# Altium footprint library PcbLib1.PcbLib: 21 footprints (part 2 of 2)
Each footprint in its own frame and in the unit in brackets; x right, y up, seen from the top. Pads: shape width x height; smd on the part's side, far side on the other; paste and mask are expansions set on the pad; w line width, h text height; cw(c..) or ccw(c..) is an arc to the next point about the centre after c.
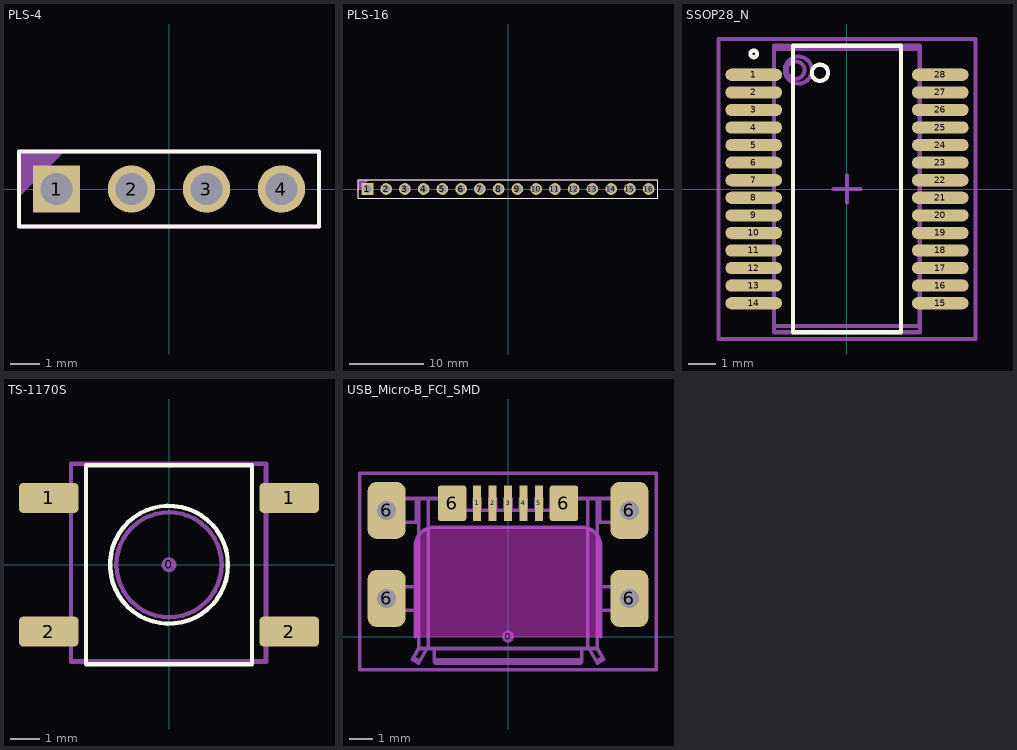
[diagram p1: the footprints below, top view; thin cyan lines are the x and y axes]

## PLS-4 [mm]
pads (4):
  rect 1.6x1.6 hole 1.1: 1(-3.81,0)
  round 1.6 hole 1.1: 2(-1.27,0) 3(1.27,0) 4(3.81,0)
Top Overlay:
  lines w0.15: -5.08,-1.27 -5.08,1.27 5.08,1.27 5.08,-1.27 -5.08,-1.27
Mechanical 29:
  region: -5.08,1.27 -3.556,1.27 -5.08,-0.254
  lines w0.15: -5.08,-1.27 5.08,-1.27 5.08,1.27 -5.08,1.27 -5.08,-1.27
  text ".Designator" at -3.5,-0.8 h1
3D body "PLS-1.STEP": height 8.5, standoff -3, extent -5.08,-1.27 -2.54,1.27
3D body "PLS-1.STEP": height 8.5, standoff -3, extent -2.54,-1.27 0,1.27
3D body "PLS-1.STEP": height 8.5, standoff -3, extent 0,-1.27 2.54,1.27
3D body "PLS-1.STEP": height 8.5, standoff -3, extent 2.54,-1.27 5.08,1.27

## PLS-16 [mm]
pads (16):
  rect 1.6x1.6 hole 1.1: 1(-19.05,0)
  round 1.6 hole 1.1: 2(-16.51,0) 3(-13.97,0) 4(-11.43,0) 5(-8.89,0) 6(-6.35,0) 7(-3.81,0) 8(-1.27,0) 9(1.27,0) 10(3.81,0) 11(6.35,0) 12(8.89,0) 13(11.43,0) 14(13.97,0) 15(16.51,0) 16(19.05,0)
Top Overlay:
  lines w0.15: -20.32,-1.27 20.32,-1.27 20.32,1.27 -20.32,1.27 -20.32,-1.27
Mechanical 29:
  region: -20.32,1.27 -18.796,1.27 -20.32,-0.254
  lines w0.15: -20.32,-1.27 -20.32,1.27 20.32,1.27 20.32,-1.27 -20.32,-1.27
  text ".Designator" at -3.5,-0.3 h1
3D body "PLS-1.STEP": height 8.5, standoff -3, extent 17.78,-1.27 20.32,1.27
3D body "PLS-1.STEP": height 8.5, standoff -3, extent 15.24,-1.27 17.78,1.27
3D body "PLS-1.STEP": height 8.5, standoff -3, extent 12.7,-1.27 15.24,1.27
3D body "PLS-1.STEP": height 8.5, standoff -3, extent 10.16,-1.27 12.7,1.27
3D body "PLS-1.STEP": height 8.5, standoff -3, extent 7.62,-1.27 10.16,1.27
3D body "PLS-1.STEP": height 8.5, standoff -3, extent 5.08,-1.27 7.62,1.27
3D body "PLS-1.STEP": height 8.5, standoff -3, extent 2.54,-1.27 5.08,1.27
3D body "PLS-1.STEP": height 8.5, standoff -3, extent 0,-1.27 2.54,1.27
3D body "PLS-1.STEP": height 8.5, standoff -3, extent -2.54,-1.27 0,1.27
3D body "PLS-1.STEP": height 8.5, standoff -3, extent -5.08,-1.27 -2.54,1.27
3D body "PLS-1.STEP": height 8.5, standoff -3, extent -7.62,-1.27 -5.08,1.27
3D body "PLS-1.STEP": height 8.5, standoff -3, extent -10.16,-1.27 -7.62,1.27
3D body "PLS-1.STEP": height 8.5, standoff -3, extent -12.7,-1.27 -10.16,1.27
3D body "PLS-1.STEP": height 8.5, standoff -3, extent -15.24,-1.27 -12.7,1.27
3D body "PLS-1.STEP": height 8.5, standoff -3, extent -17.78,-1.27 -15.24,1.27
3D body "PLS-1.STEP": height 8.5, standoff -3, extent -20.32,-1.27 -17.78,1.27

## SSOP28_N [mm] "SOP, 28-Leads, Body 10.2x5.3mm, Pitch 0.65mm, IPC Medium Density"
height 1.99
pads (28):
  oval 2.1x0.45 smd: 1(-3.45,4.225) 2(-3.45,3.575) 3(-3.45,2.925) 4(-3.45,2.275) 5(-3.45,1.625) 6(-3.45,0.975) 7(-3.45,0.325) 8(-3.45,-0.325) 9(-3.45,-0.975) 10(-3.45,-1.625) 11(-3.45,-2.275) 12(-3.45,-2.925) 13(-3.45,-3.575) 14(-3.45,-4.225) 15(3.45,-4.225) 16(3.45,-3.575) 17(3.45,-2.925) 18(3.45,-2.275) 19(3.45,-1.625) 20(3.45,-0.975) 21(3.45,-0.325) 22(3.45,0.325) 23(3.45,0.975) 24(3.45,1.625) 25(3.45,2.275) 26(3.45,2.925) 27(3.45,3.575) 28(3.45,4.225)
Top Overlay:
  circle w0.15: c-1,4.3 r0.3
  circle w0.15: c-3.45,5 r0.125
  lines w0.15: -2,-5.3 2,-5.3 2,5.3 -2,5.3 -2,-5.3
Top Courtyard:
  lines w0.15: -0.5,0 0.5,0 ; 0,-0.5 0,0.5 ; -4.75,-5.55 4.75,-5.55 4.75,5.55 -4.75,5.55 -4.75,-5.55
Mechanical 13:
  circle w0.15: c-1.8,4.4 r0.5
Mechanical 29:
  circle w0.15: c-1.9,4.4 r0.326
  lines w0.15: -2.725,-0.425 -2.725,-0.45 -4.275,-0.45 -4.275,-0.2 -2.725,-0.2 ; -2.7,-4.325 -2.7,-4.35 -4.25,-4.35 -4.25,-4.1 -2.7,-4.1 ; -2.7,-3.65 -2.7,-3.675 -4.25,-3.675 -4.25,-3.425 -2.7,-3.425 ; -2.7,-3 -2.7,-3.025 -4.25,-3.025 -4.25,-2.775 -2.7,-2.775 ; -2.7,-2.375 -2.7,-2.4 -4.25,-2.4 -4.25,-2.15 -2.7,-2.15 ; -2.7,-1.775 -2.7,-1.8 -4.25,-1.8 -4.25,-1.55 -2.7,-1.55 ; -2.7,-1.075 -2.7,-1.1 -4.25,-1.1 -4.25,-0.85 -2.7,-0.85 ; -2.7,0.2 -2.7,0.175 -4.25,0.175 -4.25,0.425 -2.7,0.425 ; -2.7,0.875 -2.7,0.85 -4.25,0.85 -4.25,1.1 -2.7,1.1 ; -2.7,1.525 -2.7,1.5 -4.25,1.5 -4.25,1.75 -2.7,1.75 ; -2.7,2.175 -2.7,2.15 -4.25,2.15 -4.25,2.4 -2.7,2.4 ; -2.7,2.825 -2.7,2.8 -4.25,2.8 -4.25,3.05 -2.7,3.05 ; -2.7,3.475 -2.7,3.45 -4.25,3.45 -4.25,3.7 -2.7,3.7 ; -2.7,4.15 -2.7,4.125 -4.25,4.125 -4.25,4.375 -2.7,4.375 ; 2.675,-4.325 2.675,-4.35 4.225,-4.35 4.225,-4.1 2.675,-4.1 ; 2.675,-3.65 2.675,-3.675 4.225,-3.675 4.225,-3.425 2.675,-3.425 ; 2.675,-3 2.675,-3.025 4.225,-3.025 4.225,-2.775 2.675,-2.775 ; 2.675,-2.375 2.675,-2.4 4.225,-2.4 4.225,-2.15 2.675,-2.15 ; 2.675,-1.775 2.675,-1.8 4.225,-1.8 4.225,-1.55 2.675,-1.55 ; 2.675,-1.075 2.675,-1.1 4.225,-1.1 4.225,-0.85 2.675,-0.85 ; 2.675,0.2 2.675,0.175 4.225,0.175 4.225,0.425 2.675,0.425 ; 2.675,0.875 2.675,0.85 4.225,0.85 4.225,1.1 2.675,1.1 ; 2.675,1.525 2.675,1.5 4.225,1.5 4.225,1.75 2.675,1.75 ; 2.675,2.175 2.675,2.15 4.225,2.15 4.225,2.4 2.675,2.4 ; 2.675,2.825 2.675,2.8 4.225,2.8 4.225,3.05 2.675,3.05 ; 2.675,3.475 2.675,3.45 4.225,3.45 4.225,3.7 2.675,3.7 ; 2.675,4.15 2.675,4.125 4.225,4.125 4.225,4.375 2.675,4.375 ; 2.7,-0.425 2.7,-0.45 4.25,-0.45 4.25,-0.2 2.7,-0.2 ; -2.7,-5.3 2.7,-5.3 2.7,5.3 -2.7,5.3 -2.7,-5.3 ; -2.7,-5.075 2.675,-5.075 2.675,5.175 -2.7,5.175 -2.7,-5.075
3D body "User Library-SSOP-28-FT232RL.STEP": height 2.15, standoff 0, extent -4.078,-5.14 3.678,5.19

## TS-1170S [mm] "6.5x6.5mm SMD tact switch 7.0mm stem"
height 7
pads (5):
  round 0.508 on Mech15: 0(0,0)
  rrect25% 2x1 smd: 1(-4.05,2.25) 1(4.05,2.25) 2(-4.05,-2.25) 2(4.05,-2.25)
Top Overlay:
  circle w0.15: c0,0 r1.984
  lines w0.15: -2.794,-3.35 -2.794,3.35 2.794,3.35 2.794,-3.35 -2.794,-3.35
Mechanical 29:
  circle w0.15: c0,0 r1.77
  lines w0.15: -3.3,-2.625 -4.35,-2.625 -4.35,-1.9 -3.3,-1.9 ; -3.3,1.875 -4.35,1.875 -4.35,2.6 -3.3,2.6 ; -3.25,-3.25 3.25,-3.25 3.25,3.25 ; 3.275,-2.625 4.325,-2.625 4.325,-1.9 3.275,-1.9 ; 3.275,1.9 4.325,1.9 4.325,2.625 3.275,2.625 ; -3.3,-3.275 -3.3,3.4 3.275,3.4 3.275,-3.275 -3.3,-3.275
3D body "TS-1170S-WP.stp": height 7, standoff 0, extent -4,-3.25 4,3.25

## USB_Micro-B_FCI_SMD [mm]
height 2.286
pads (12):
  round 0.508 on Mech15: 0(0,0)
  rrect20% 0.35x1.5 smd: 1(-1.3,5.6) 2(-0.65,5.6) 3(0,5.6) 4(0.65,5.6) 5(1.3,5.6)
  rrect50% 1.6x2.4 hole 0.8: 6(-5.1,1.6) 6(-5.1,5.3) 6(5.1,1.6) 6(5.1,5.3)
  rrect20% 1.2x1.5 smd: 6(-2.35,5.6) 6(2.35,5.6)
Top Solder:
  region: 1.905,4.826 1.905,6.35 -1.905,6.35 -1.905,4.826
Keep-Out Layer:
  board cut-out: -3.9,0 -3.9,3.797 -3.9,3.875 -3.869,4.03 -3.809,4.175 -3.721,4.307 -3.61,4.418 -3.479,4.505 -3.333,4.566 -3.179,4.597 -3.1,4.597 3.1,4.597 3.179,4.597 3.333,4.566 3.479,4.505 3.61,4.418 3.721,4.307 3.809,4.175 3.869,4.03 3.9,3.875 3.9,3.797 3.9,0
Mechanical 13:
  lines w0.15: -3.49,-0.651 ccw(c-3.75,-0.501) -3.45,-0.5 ; -3.1,-1.031 ccw(c-3.006,-1.024) -3,-1.118 ; -3.1,-0.881 ccw(c-3.006,-0.874) -3,-0.968 ; -2.577,5.8 cw(c-2.577,5.6) -2.443,5.748 ; -2.229,5.553 ccw(c-2.275,5.8) -2.024,5.8 ; -2.007,5.352 ccw(c-1.873,5.5) -1.873,5.3 ; 1.873,5.3 ccw(c1.873,5.5) 2.007,5.352 ; 2.024,5.8 ccw(c2.275,5.8) 2.229,5.553 ; 2.443,5.748 cw(c2.577,5.6) 2.577,5.8 ; 3,-1.118 ccw(c3.006,-1.024) 3.1,-1.031 ; 3,-0.968 ccw(c3.006,-0.874) 3.1,-0.881 ; 3.45,-0.5 ccw(c3.75,-0.501) 3.49,-0.651
Mechanical 15:
  lines w0.15: -3.9,0 -3.9,3.797 cw(c-3.1,3.797) -3.1,4.597 3.1,4.597 cw(c3.1,3.797) 3.9,3.797 3.9,0 ; -6.223,-1.397 6.223,-1.397 6.223,6.858 -6.223,6.858 -6.223,-1.397
Mechanical 29:
  lines w0.15: -4.85,1.1 -4.85,2.1 ; -4.85,4.8 -4.85,5.8 ; -3.97,-0.881 -3.71,-1.031 ; -3.85,1.1 -3.85,2.1 ; -3.85,4.8 -3.85,5.8 ; -3.75,1.1 -5.25,1.1 -5.25,2.1 -3.75,2.1 ; -3.75,4.8 -5.25,4.8 -5.25,5.8 -2.577,5.8 ; -3.75,5.8 -3.75,-0.5 ; -3.49,-0.651 -3.76,-1.118 -4.02,-0.968 -3.75,-0.5 ; -3.35,-0.5 -3.35,5.8 ; -3.1,-1.031 -3.1,-0.5 ; -2.526,5.793 -2.526,5.8 ; -2.443,5.748 -2.007,5.352 ; -1.873,5.3 1.873,5.3 ; -1.425,5.3 -1.425,5.8 -1.175,5.8 -1.175,5.3 ; -0.775,5.3 -0.775,5.8 -0.525,5.8 -0.525,5.3 ; -0.125,5.3 -0.125,5.8 0.125,5.8 0.125,5.3 ; 0.525,5.3 0.525,5.8 0.775,5.8 0.775,5.3 ; 1.175,5.3 1.175,5.8 1.425,5.8 1.425,5.3 ; 2.007,5.352 2.443,5.748 ; 2.526,5.793 2.526,5.8 ; 2.577,5.8 5.25,5.8 5.25,4.8 3.75,4.8 ; 3.1,-1.031 3.1,-0.5 ; 3.35,-0.5 3.35,5.8 ; 3.49,-0.651 3.76,-1.118 4.02,-0.968 3.75,-0.5 ; 3.71,-1.031 3.97,-0.881 ; 3.75,1.1 5.25,1.1 5.25,2.1 3.75,2.1 ; 3.75,5.8 3.75,-0.5 ; 3.85,1.1 3.85,2.1 ; 3.85,4.8 3.85,5.8 ; 4.85,1.1 4.85,2.1 ; 4.85,4.8 4.85,5.8 ; -3.75,-0.5 -3.1,-0.5 ; -3.1,-0.5 3.1,-0.501 ; 3.1,-0.5 3.75,-0.5 ; -3,-1.118 -3,-0.968 3,-0.968 3,-1.118 -3,-1.118
  text ".Designator" at -3,1.7 h1
3D body "USB Micro B plug.STEP": height 4.67, standoff -3.53, extent -5.35,-21.579 5.35,2.921
3D body "Micro USB B-type mid-mount FCI.STEP": height 2.15, standoff -0.92, extent -5.25,-1.118 5.25,5.8